# Altium integrated library symbols.IntLib: 4 symbols
Pins are listed as number, name and electrical type; pins without a type are passive.

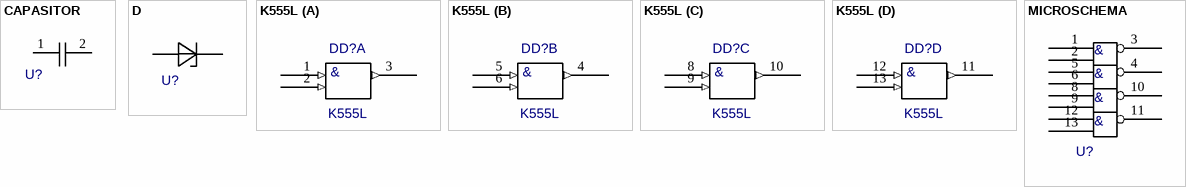
[diagram p0: symbols CAPASITOR to MICROSCHEMA]

## CAPASITOR
designator U?  (value not drawn)
Value: *
footprint KM6A
pins: 1 0, 2 0

## D
designator U?  (value not drawn)
Value: *
footprint R7.5X3
pins: 1 0, 2 0

## K555L
designator DD?
Value: *
footprint K555L
pins on every part: 7 GND (power) hidden, 14 Vcc (power) hidden
part A pins: 1 (in), 2 (in), 3 (out)
part B pins: 4 (out), 5 (in), 6 (in)
part C pins: 8 (in), 9 (in), 10 (out)
part D pins: 11 (out), 12 (in), 13 (in)
part A text: &
part B text: &
part C text: &
part D text: &

## MICROSCHEMA
designator U?  (value not drawn)
Value: *
footprint K555L
pins: 1 0, 2 1, 3, 4, 5, 6, 8, 9, 10, 11, 12, 13
text: &